# Altium footprint library Crystals_Oscillators.PcbLib: 6 footprints
Each footprint in its own frame and in the unit in brackets; x right, y up, seen from the top. Pads: shape width x height; smd on the part's side, far side on the other; paste and mask are expansions set on the pad; w line width, h text height; cw(c..) or ccw(c..) is an arc to the next point about the centre after c.
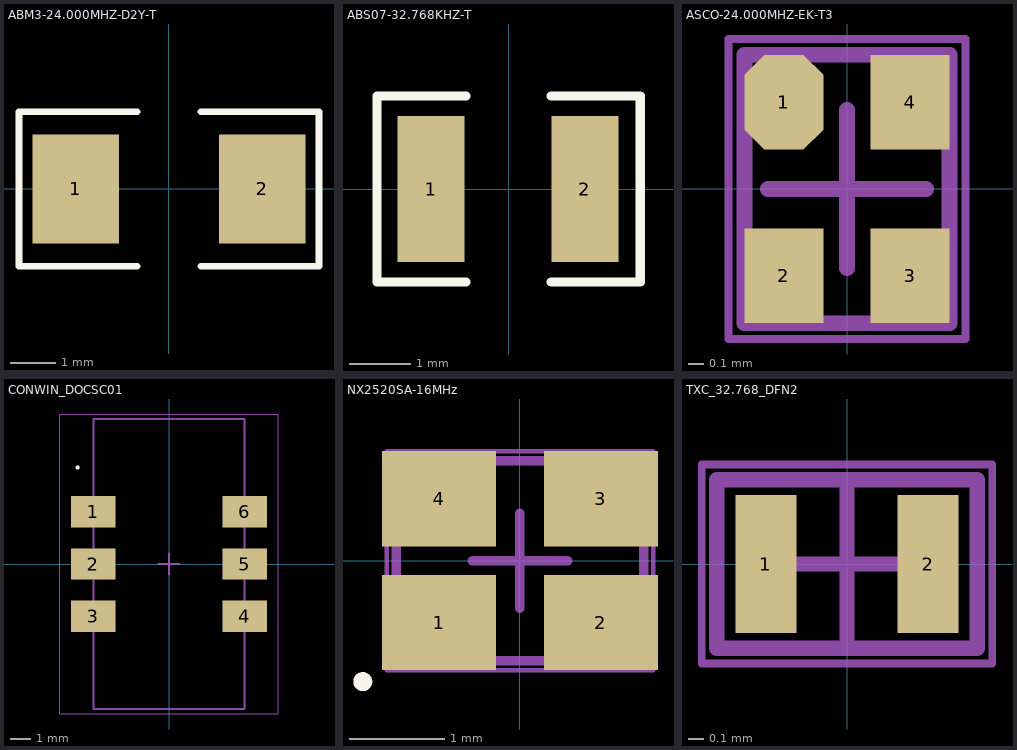
[diagram p0: the footprints below, top view; thin cyan lines are the x and y axes]

## ABM3-24.000MHZ-D2Y-T [mm] "24MHz Crystal"
pads (2):
  rect 1.9x2.4 smd: 1(-2.05,0) 2(2.05,0)
Top Overlay:
  lines w0.152: -0.7,-1.7 -3.302,-1.7 -3.302,1.7 -0.7,1.7 ; 0.7,-1.7 3.302,-1.7 3.302,1.7 0.7,1.7
3D body "ABM3.STEP": height 1.3, standoff 0, extent -2.5,-1.6 2.5,1.6

## ABS07-32.768KHZ-T [mm] "32.768kHz Crystal"
pads (2):
  rect 1.1x2.4 smd: 1(-1.27,0) 2(1.25,0)
Top Overlay:
  lines w0.152: -0.7,-1.524 -2.159,-1.524 -2.159,1.524 -0.7,1.524 ; 0.7,-1.524 2.159,-1.524 2.159,1.524 0.7,1.524
3D body "ABS07.STEP": height 0.89, standoff 0, extent -1.6,-0.749 1.6,0.749

## ASCO-24.000MHZ-EK-T3 [mm] "DFN, 4-Leads, Body 1.60x1.20mm, Pitch 0.70mm, IPC High Density"
height 0.7
pads (4):
  oct 0.5x0.6 smd mask+0.05: 1(-0.4,0.55)
  rect 0.5x0.6 smd mask+0.05: 2(-0.4,-0.55) 3(0.4,-0.55) 4(0.4,0.55)
Mechanical 13:
  lines w0.1: -0.65,-0.85 0.65,-0.85 0.65,0.85 -0.65,0.85 -0.65,-0.85
Mechanical 15:
  lines w0.05: -0.75,-0.95 0.75,-0.95 0.75,0.95 -0.75,0.95 -0.75,-0.95
  lines w0.1: -0.5,0 0.5,0 ; 0,-0.5 0,0.5
3D body "ASCO.STEP": height 0.59, standoff -0.01, extent -0.6,-0.8 0.6,0.8

## CONWIN_DOCSC01 [mm] "Chip Array, Flat, 6-Leads, Pitch 2.54mm,  Body 14.10x9.10mm,  IPC Medium Density"
height 8.38
pads (6):
  rect 2.16x1.52 smd: 1(-3.68,2.54) 2(-3.68,0) 3(-3.68,-2.54) 4(3.68,-2.54) 5(3.68,0) 6(3.68,2.54)
Top Overlay:
  circle w0.1: c-4.445,4.699 r0.05
Mechanical 13:
  lines w0.1: -3.68,-7.05 -3.68,7.05 3.68,7.05 3.68,-7.05 -3.68,-7.05
Mechanical 15:
  lines w0.05: -5.32,-7.3 -5.32,7.3 5.32,7.3 5.32,-7.3 -5.32,-7.3
  lines w0.1: -0.5,0 0.5,0 ; 0,-0.5 0,0.5
3D body "CONWIN_DOCSC01.step": height 8.38, standoff 0, extent -4.6,-7.05 4.6,7.05

## NX2520SA-16MHz [mm] "DFN, 4-Leads, Body 2.00x2.50mm, Pitch 1.70mm, IPC High Density"
height 0.65
pads (4):
  rect 1.2x1 smd mask+0.05: 1(-0.85,-0.65) 2(0.85,-0.65) 3(0.85,0.65) 4(-0.85,0.65)
Top Overlay:
  circle w0.1: c-1.651,-1.27 r0.05
Mechanical 13:
  lines w0.1: -1.3,-1.05 1.3,-1.05 1.3,1.05 -1.3,1.05 -1.3,-1.05
Mechanical 15:
  lines w0.05: -1.4,-1.15 1.4,-1.15 1.4,1.15 -1.4,1.15 -1.4,-1.15
  lines w0.1: -0.5,0 0.5,0 ; 0,-0.5 0,0.5
3D body "DFN130P200X65-4L.step": height 0.65, standoff 0, extent -1.3,-1.05 1.3,1.1

## TXC_32.768_DFN2 [mm] "DFN, 2-Leads, Body 1.00x1.60mm, Pitch 1.06mm, IPC High Density"
height 0.5
pads (2):
  rect 0.4x0.9 smd: 1(-0.53,0) 2(0.53,0)
Mechanical 13:
  lines w0.1: -0.85,-0.55 0.85,-0.55 0.85,0.55 -0.85,0.55 -0.85,-0.55
Mechanical 15:
  lines w0.05: -0.95,-0.65 0.95,-0.65 0.95,0.65 -0.95,0.65 -0.95,-0.65
  lines w0.1: -0.5,0 0.5,0 ; 0,-0.5 0,0.5
3D body "TXC_32.768_DFN2.step": height 0.5, standoff 0, extent -0.85,-0.55 0.85,0.55